# Altium footprint library PcbLib1.PcbLib: 9 footprints
Each footprint in its own frame and in the unit in brackets; x right, y up, seen from the top. Pads: shape width x height; smd on the part's side, far side on the other; paste and mask are expansions set on the pad; w line width, h text height; cw(c..) or ccw(c..) is an arc to the next point about the centre after c.
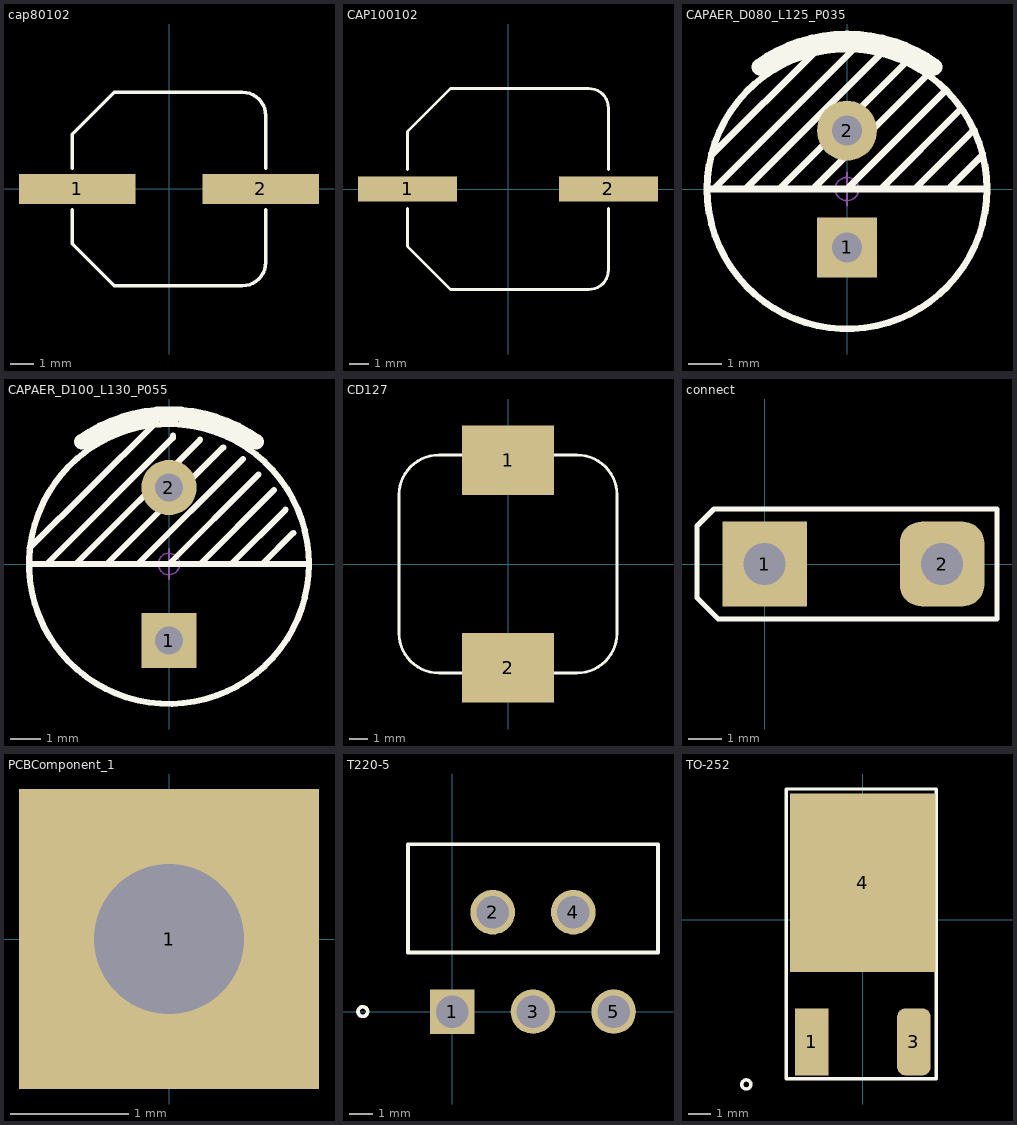
[diagram p0: the footprints below, top view; thin cyan lines are the x and y axes]

## cap80102 [mil]
pads (2):
  rect 196.85x50 smd: 1(-155,0) 2(155,0)
Top Overlay:
  lines w6: -163.39,-35 -163.39,-92.52 -92.52,-163.39 124.01,-163.39 ccw(c124.01,-124.02) 163.38,-124.02 163.38,-35 ; -163.39,35 -163.39,92.51 -92.52,163.38 124.01,163.38 cw(c124.01,124.01) 163.38,124.01 163.38,35
3D body "User Library-A3D-003-00014.STEP": height 401.61, standoff 0, extent -190.94,-163.38 190.95,163.39

## CAP100102 [mil]
pads (2):
  rect 200x50 smd: 1(-202.76,0.01) 2(202.75,0.01)
Top Overlay:
  lines w6: -202.76,-39.37 -202.76,-116.14 -116.14,-202.76 163.38,-202.76 ccw(c163.38,-163.39) 202.75,-163.39 202.75,-39.37 ; -202.76,39.37 -202.76,116.14 -116.14,202.76 163.38,202.76 cw(c163.38,163.39) 202.75,163.39 202.75,39.37
3D body "User Library-A3D-003-00015.STEP": height 404.18, standoff 2.57, extent -230.31,-202.75 230.32,202.76

## CAPAER_D080_L125_P035 [mm]
pads (2):
  rect 1.8x1.8 hole 0.9: 1(0,-1.75)
  round 1.8 hole 0.9: 2(0,1.75)
Top Overlay:
  circle w0.2: c0,0 r4.2
  lines w0.2: -4.191,0 -4,0 ; -4.064,1.016 -0.889,4.191 ; -3.048,0 1.016,4.064 ; -2.032,0 1.778,3.81 ; -1.016,0 2.413,3.429 ; 0,0 2.921,2.921 ; 0.127,4.191 0.127,4.127 -4,0 ; 1.016,0 3.429,2.413 ; 2.032,0 3.81,1.778 ; 3.048,0 4.064,1.016 ; 4.191,0 -4,0
  lines w0.504: -2.616,3.663 cw(c0,0) 2.616,3.663
Mechanical 15:
  circle w0.05: c0,0 r0.35
  lines w0.05: -0.5,0 0.5,0 ; 0,-0.5 0,0.5
3D body "User Library-CAPAER_D080_L125_P035_W006X030.STEP": height 12.51, standoff -3, extent -4,-4 4,4.01

## CAPAER_D100_L130_P055 [mm]
pads (2):
  rect 1.8x1.8 hole 0.9: 1(0,-2.5)
  round 1.8 hole 0.9: 2(0,2.5)
Top Overlay:
  circle w0.2: c0,0 r4.572
  lines w0.2: -4.572,0 -4,0 ; -4.565,0.52 -0.5,4.545 ; -3.048,0 1.016,4.064 ; -2.032,0 1.778,3.81 ; -1.016,0 2.413,3.429 ; 0,0 2.921,2.921 ; 0.127,4.191 0.127,4.127 -4,0 ; 1.016,0 3.429,2.413 ; 2.032,0 3.81,1.778 ; 3.048,0 4.064,1.016 ; 4.572,0 -4,0
  lines w0.504: -2.849,3.989 cw(c0,0) 2.849,3.989
Mechanical 15:
  circle w0.05: c0,0 r0.35
  lines w0.05: -0.5,0 0.5,0 ; 0,-0.5 0,0.5
3D body "User Library-Cap-EL(10x13-5).STEP": height 13, standoff -3.3, extent -4.998,-5 4.997,5.002

## CD127 [mil]
pads (2):
  rect 200x150 smd: 1(0,225) 2(0,-225)
Top Overlay:
  lines w6: -100,-236.22 -149.61,-236.22 cw(c-149.61,-149.61) -236.22,-149.61 -236.22,149.61 cw(c-149.61,149.61) -149.61,236.22 -98.43,236.22 ; 98.42,236.22 149.6,236.22 cw(c149.6,149.61) 236.22,149.61 236.22,-149.61 cw(c149.6,-149.61) 149.6,-236.22 100,-236.22
3D body "User Library-CDRH127-1.STEP": height 304.96, standoff -17.87, extent -236.21,-236.21 236.23,236.23

## connect [mil]
pads (2):
  rect 100x100 hole 50: 1(0,0)
  rrect50% 100x100 hole 50: 2(210,0)
Top Overlay:
  lines w6: -80,-40 -55,-65 275,-65 275,65 -60,65 -80,45 -80,-40

## PCBComponent_1 [mil]
pads (1):
  rect 100x100 hole 50: 1(0,0)

## T220-5 [mil]
pads (5):
  rect 74x74 / inner round 60 / far side rect 74x74 hole 54: 1(0,0)
  round 74 / inner round 60 / far side round 74 hole 54: 2(66.93,165) 3(133.86,0) 4(200.79,165) 5(267.72,0)
Top Overlay:
  circle w6: c-148.64,0 r8
  lines w6: -73.64,98.08 341.36,98.08 341.36,278 -73.64,278 -73.64,98.08
Mechanical 1:
  circle w0: c-148.64,0 r8
  lines w0: -73.64,98.08 341.36,98.08 341.36,278 -73.64,278 -73.64,98.08
3D body "User Library-TO220-5.STEP": height 850, standoff -94.49, extent -64.2,1.58 335.8,325.99
3D body "User Library-heatsink-2.STEP": height 980, standoff -161.73, extent -355.15,69.73 629.1,660.28

## TO-252 [mm]
pads (3):
  rect 1.5x3 smd: 1(-2.286,-5.461)
  rrect50% 1.5x3 smd: 3(2.286,-5.461)
  rect 6.5x8 smd: 4(0,1.651)
Top Overlay:
  circle w0.152: c-5.207,-7.366 r0.203
  lines w0.152: -3.429,-7.112 -3.429,5.842 3.29,5.842 3.29,-7.112 -3.429,-7.112
3D body "CircuitWorks-TO-252.STEP": height 2.3, standoff 0, extent -3.29,-5.473 3.29,4.227